# Altium footprint library LAN8841-VQ2A.PcbLib: 3 footprints
Each footprint in its own frame and in the unit in brackets; x right, y up, seen from the top. Pads: shape width x height; smd on the part's side, far side on the other; paste and mask are expansions set on the pad; w line width, h text height; cw(c..) or ccw(c..) is an arc to the next point about the centre after c.
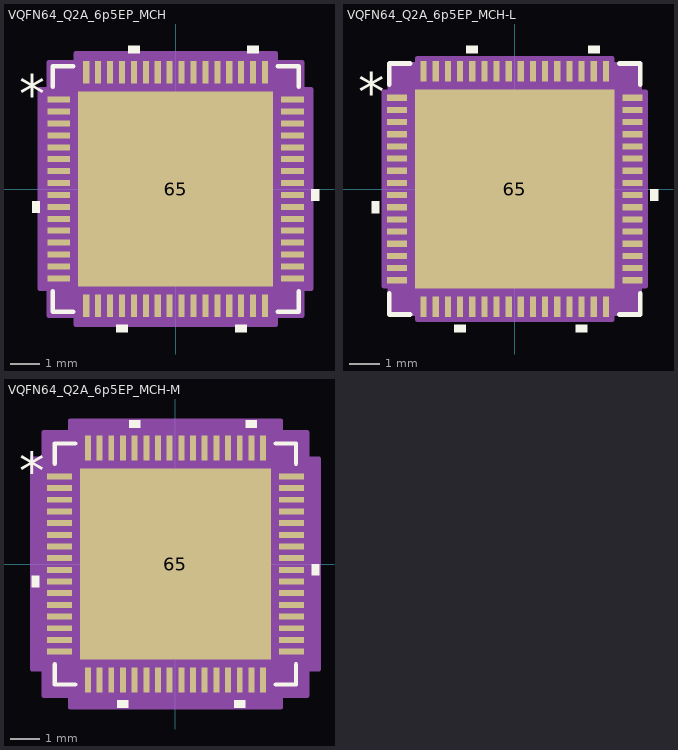
[diagram p0: the footprints below, top view; thin cyan lines are the x and y axes]

## VQFN64_Q2A_6p5EP_MCH [mil]
pads (65):
  rect 30x8 smd paste+0 mask+0: 1(-154.5,118.11) 2(-154.5,102.36) 3(-154.5,86.61) 4(-154.5,70.87) 5(-154.5,55.12) 6(-154.5,39.37) 7(-154.5,23.62) 8(-154.5,7.87) 9(-154.5,-7.87) 10(-154.5,-23.62) 11(-154.5,-39.37) 12(-154.5,-55.12) 13(-154.5,-70.87) 14(-154.5,-86.61) 15(-154.5,-102.36) 16(-154.5,-118.11) 33(154.5,-118.11) 34(154.5,-102.36) 35(154.5,-86.61) 36(154.5,-70.87) 37(154.5,-55.12) 38(154.5,-39.37) 39(154.5,-23.62) 40(154.5,-7.87) 41(154.5,7.87) 42(154.5,23.62) 43(154.5,39.37) 44(154.5,55.12) 45(154.5,70.87) 46(154.5,86.61) 47(154.5,102.36) 48(154.5,118.11)
  rect 8x30 smd paste+0 mask+0: 17(-118.11,-154.5) 18(-102.36,-154.5) 19(-86.61,-154.5) 20(-70.87,-154.5) 21(-55.12,-154.5) 22(-39.37,-154.5) 23(-23.62,-154.5) 24(-7.87,-154.5) 25(7.87,-154.5) 26(23.62,-154.5) 27(39.37,-154.5) 28(55.12,-154.5) 29(70.87,-154.5) 30(86.61,-154.5) 31(102.36,-154.5) 32(118.11,-154.5) 49(118.11,154.5) 50(102.36,154.5) 51(86.61,154.5) 52(70.87,154.5) 53(55.12,154.5) 54(39.37,154.5) 55(23.62,154.5) 56(7.87,154.5) 57(-7.87,154.5) 58(-23.62,154.5) 59(-39.37,154.5) 60(-55.12,154.5) 61(-70.87,154.5) 62(-86.61,154.5) 63(-102.36,154.5) 64(-118.11,154.5)
  rect 258x258 smd paste-129 mask+0: 65(0,0)
Top Overlay:
  region: -179.5,-16.12 -189.5,-16.12 -189.5,-31.12 -179.5,-31.12
  region: -63.37,-179.5 -78.37,-179.5 -78.37,-189.5 -63.37,-189.5
  region: 94.11,-179.5 79.11,-179.5 79.11,-189.5 94.11,-189.5
  region: 179.5,-0.37 189.5,-0.37 189.5,-15.37 179.5,-15.37
  region: 109.86,179.5 94.86,179.5 94.86,189.5 109.86,189.5
  region: -47.62,179.5 -62.62,179.5 -62.62,189.5 -47.62,189.5
  lines w6: -162.5,-135.21 -162.5,-162.5 -135.21,-162.5 ; -162.5,135.21 -162.5,162.5 -135.21,162.5 ; 135.21,-162.5 162.5,-162.5 162.5,-135.21 ; 135.21,162.5 162.5,162.5 162.5,135.21
  text "*" at -207,100.98 h50
Top Paste:
  region: -81.34,125.06 -125.06,125.06 -125.06,81.34 -81.34,81.34
  region: -81.34,73.46 -125.06,73.46 -125.06,29.74 -81.34,29.74
  region: -81.34,21.86 -125.06,21.86 -125.06,-21.86 -81.34,-21.86
  region: -81.34,-29.74 -125.06,-29.74 -125.06,-73.46 -81.34,-73.46
  region: -81.34,-81.34 -125.06,-81.34 -125.06,-125.06 -81.34,-125.06
  region: -29.74,125.06 -73.46,125.06 -73.46,81.34 -29.74,81.34
  region: -29.74,73.46 -73.46,73.46 -73.46,29.74 -29.74,29.74
  region: -29.74,21.86 -73.46,21.86 -73.46,-21.86 -29.74,-21.86
  region: -29.74,-29.74 -73.46,-29.74 -73.46,-73.46 -29.74,-73.46
  region: -29.74,-81.34 -73.46,-81.34 -73.46,-125.06 -29.74,-125.06
  region: 21.86,125.06 -21.86,125.06 -21.86,81.34 21.86,81.34
  region: 21.86,73.46 -21.86,73.46 -21.86,29.74 21.86,29.74
  region: 21.86,21.86 -21.86,21.86 -21.86,-21.86 21.86,-21.86
  region: 21.86,-29.74 -21.86,-29.74 -21.86,-73.46 21.86,-73.46
  region: 21.86,-81.34 -21.86,-81.34 -21.86,-125.06 21.86,-125.06
  region: 73.46,125.06 29.74,125.06 29.74,81.34 73.46,81.34
  region: 73.46,73.46 29.74,73.46 29.74,29.74 73.46,29.74
  region: 73.46,21.86 29.74,21.86 29.74,-21.86 73.46,-21.86
  region: 73.46,-29.74 29.74,-29.74 29.74,-73.46 73.46,-73.46
  region: 73.46,-81.34 29.74,-81.34 29.74,-125.06 73.46,-125.06
  region: 125.06,125.06 81.34,125.06 81.34,81.34 125.06,81.34
  region: 125.06,73.46 81.34,73.46 81.34,29.74 125.06,29.74
  region: 125.06,21.86 81.34,21.86 81.34,-21.86 125.06,-21.86
  region: 125.06,-29.74 81.34,-29.74 81.34,-73.46 125.06,-73.46
  region: 125.06,-81.34 81.34,-81.34 81.34,-125.06 125.06,-125.06
Mechanical 13:
  drawing of 265 lines, arcs and shapes, not listed
  text "*" at -152,100.98 h50
Mechanical 15:
  region: -132.11,-167.5 -167.5,-167.5 -167.5,-132.11 -179.5,-132.11 -179.5,132.11 -167.5,132.11 -167.5,167.5 -132.11,167.5 -132.11,179.5 132.11,179.5 132.11,167.5 167.5,167.5 167.5,132.11 179.5,132.11 179.5,-132.11 167.5,-132.11 167.5,-167.5 132.11,-167.5 132.11,-179.5 -132.11,-179.5
  lines w6: -179.5,-132.11 -167.5,-132.11 -167.5,-167.5 -132.11,-167.5 -132.11,-179.5 132.11,-179.5 132.11,-167.5 167.5,-167.5 167.5,-132.11 179.5,-132.11 179.5,132.11 167.5,132.11 167.5,167.5 132.11,167.5 132.11,179.5 -132.11,179.5 -132.11,167.5 -167.5,167.5 -167.5,132.11 -179.5,132.11 -179.5,-132.11
3D body "VQFN64_Q2A_6p5EP_MCH.step": height 35.12, standoff 0, extent -157.48,-157.48 157.48,157.48

## VQFN64_Q2A_6p5EP_MCH-L [mil]
pads (65):
  rect 26x8 smd paste+0 mask+0: 1(-152.5,118.11) 2(-152.5,102.36) 3(-152.5,86.61) 4(-152.5,70.87) 5(-152.5,55.12) 6(-152.5,39.37) 7(-152.5,23.62) 8(-152.5,7.87) 9(-152.5,-7.87) 10(-152.5,-23.62) 11(-152.5,-39.37) 12(-152.5,-55.12) 13(-152.5,-70.87) 14(-152.5,-86.61) 15(-152.5,-102.36) 16(-152.5,-118.11) 33(152.5,-118.11) 34(152.5,-102.36) 35(152.5,-86.61) 36(152.5,-70.87) 37(152.5,-55.12) 38(152.5,-39.37) 39(152.5,-23.62) 40(152.5,-7.87) 41(152.5,7.87) 42(152.5,23.62) 43(152.5,39.37) 44(152.5,55.12) 45(152.5,70.87) 46(152.5,86.61) 47(152.5,102.36) 48(152.5,118.11)
  rect 8x26 smd paste+0 mask+0: 17(-118.11,-152.5) 18(-102.36,-152.5) 19(-86.61,-152.5) 20(-70.87,-152.5) 21(-55.12,-152.5) 22(-39.37,-152.5) 23(-23.62,-152.5) 24(-7.87,-152.5) 25(7.87,-152.5) 26(23.62,-152.5) 27(39.37,-152.5) 28(55.12,-152.5) 29(70.87,-152.5) 30(86.61,-152.5) 31(102.36,-152.5) 32(118.11,-152.5) 49(118.11,152.5) 50(102.36,152.5) 51(86.61,152.5) 52(70.87,152.5) 53(55.12,152.5) 54(39.37,152.5) 55(23.62,152.5) 56(7.87,152.5) 57(-7.87,152.5) 58(-23.62,152.5) 59(-39.37,152.5) 60(-55.12,152.5) 61(-70.87,152.5) 62(-86.61,152.5) 63(-102.36,152.5) 64(-118.11,152.5)
  rect 258x258 smd paste-129 mask+0: 65(0,0)
Top Overlay:
  region: -175.5,-16.12 -185.5,-16.12 -185.5,-31.12 -175.5,-31.12
  region: -63.37,-175.5 -78.37,-175.5 -78.37,-185.5 -63.37,-185.5
  region: 94.11,-175.5 79.11,-175.5 79.11,-185.5 94.11,-185.5
  region: 175.5,-0.37 185.5,-0.37 185.5,-15.37 175.5,-15.37
  region: 109.86,175.5 94.86,175.5 94.86,185.5 109.86,185.5
  region: -47.62,175.5 -62.62,175.5 -62.62,185.5 -47.62,185.5
  lines w6: -162.5,-135.21 -162.5,-162.5 -135.21,-162.5 ; -162.5,135.21 -162.5,162.5 -135.21,162.5 ; 135.21,-162.5 162.5,-162.5 162.5,-135.21 ; 135.21,162.5 162.5,162.5 162.5,135.21
  text "*" at -203,100.98 h50
Top Paste:
  region: -81.34,125.06 -125.06,125.06 -125.06,81.34 -81.34,81.34
  region: -81.34,73.46 -125.06,73.46 -125.06,29.74 -81.34,29.74
  region: -81.34,21.86 -125.06,21.86 -125.06,-21.86 -81.34,-21.86
  region: -81.34,-29.74 -125.06,-29.74 -125.06,-73.46 -81.34,-73.46
  region: -81.34,-81.34 -125.06,-81.34 -125.06,-125.06 -81.34,-125.06
  region: -29.74,125.06 -73.46,125.06 -73.46,81.34 -29.74,81.34
  region: -29.74,73.46 -73.46,73.46 -73.46,29.74 -29.74,29.74
  region: -29.74,21.86 -73.46,21.86 -73.46,-21.86 -29.74,-21.86
  region: -29.74,-29.74 -73.46,-29.74 -73.46,-73.46 -29.74,-73.46
  region: -29.74,-81.34 -73.46,-81.34 -73.46,-125.06 -29.74,-125.06
  region: 21.86,125.06 -21.86,125.06 -21.86,81.34 21.86,81.34
  region: 21.86,73.46 -21.86,73.46 -21.86,29.74 21.86,29.74
  region: 21.86,21.86 -21.86,21.86 -21.86,-21.86 21.86,-21.86
  region: 21.86,-29.74 -21.86,-29.74 -21.86,-73.46 21.86,-73.46
  region: 21.86,-81.34 -21.86,-81.34 -21.86,-125.06 21.86,-125.06
  region: 73.46,125.06 29.74,125.06 29.74,81.34 73.46,81.34
  region: 73.46,73.46 29.74,73.46 29.74,29.74 73.46,29.74
  region: 73.46,21.86 29.74,21.86 29.74,-21.86 73.46,-21.86
  region: 73.46,-29.74 29.74,-29.74 29.74,-73.46 73.46,-73.46
  region: 73.46,-81.34 29.74,-81.34 29.74,-125.06 73.46,-125.06
  region: 125.06,125.06 81.34,125.06 81.34,81.34 125.06,81.34
  region: 125.06,73.46 81.34,73.46 81.34,29.74 125.06,29.74
  region: 125.06,21.86 81.34,21.86 81.34,-21.86 125.06,-21.86
  region: 125.06,-29.74 81.34,-29.74 81.34,-73.46 125.06,-73.46
  region: 125.06,-81.34 81.34,-81.34 81.34,-125.06 125.06,-125.06
Mechanical 13:
  drawing of 265 lines, arcs and shapes, not listed
  text "*" at -152,100.98 h50
Mechanical 15:
  region: -126.11,-161.5 -161.5,-161.5 -161.5,-126.11 -169.5,-126.11 -169.5,126.11 -161.5,126.11 -161.5,161.5 -126.11,161.5 -126.11,169.5 126.11,169.5 126.11,161.5 161.5,161.5 161.5,126.11 169.5,126.11 169.5,-126.11 161.5,-126.11 161.5,-161.5 126.11,-161.5 126.11,-169.5 -126.11,-169.5
  lines w6: -169.5,-126.11 -161.5,-126.11 -161.5,-161.5 -126.11,-161.5 -126.11,-169.5 126.11,-169.5 126.11,-161.5 161.5,-161.5 161.5,-126.11 169.5,-126.11 169.5,126.11 161.5,126.11 161.5,161.5 126.11,161.5 126.11,169.5 -126.11,169.5 -126.11,161.5 -161.5,161.5 -161.5,126.11 -169.5,126.11 -169.5,-126.11
3D body "VQFN64_Q2A_6p5EP_MCH.step": height 35.12, standoff 0, extent -157.48,-157.48 157.48,157.48

## VQFN64_Q2A_6p5EP_MCH-M [mil]
pads (65):
  rect 34x8 smd paste+0 mask+0: 1(-156.5,118.11) 2(-156.5,102.36) 3(-156.5,86.61) 4(-156.5,70.87) 5(-156.5,55.12) 6(-156.5,39.37) 7(-156.5,23.62) 8(-156.5,7.87) 9(-156.5,-7.87) 10(-156.5,-23.62) 11(-156.5,-39.37) 12(-156.5,-55.12) 13(-156.5,-70.87) 14(-156.5,-86.61) 15(-156.5,-102.36) 16(-156.5,-118.11) 33(156.5,-118.11) 34(156.5,-102.36) 35(156.5,-86.61) 36(156.5,-70.87) 37(156.5,-55.12) 38(156.5,-39.37) 39(156.5,-23.62) 40(156.5,-7.87) 41(156.5,7.87) 42(156.5,23.62) 43(156.5,39.37) 44(156.5,55.12) 45(156.5,70.87) 46(156.5,86.61) 47(156.5,102.36) 48(156.5,118.11)
  rect 8x34 smd paste+0 mask+0: 17(-118.11,-156.5) 18(-102.36,-156.5) 19(-86.61,-156.5) 20(-70.87,-156.5) 21(-55.12,-156.5) 22(-39.37,-156.5) 23(-23.62,-156.5) 24(-7.87,-156.5) 25(7.87,-156.5) 26(23.62,-156.5) 27(39.37,-156.5) 28(55.12,-156.5) 29(70.87,-156.5) 30(86.61,-156.5) 31(102.36,-156.5) 32(118.11,-156.5) 49(118.11,156.5) 50(102.36,156.5) 51(86.61,156.5) 52(70.87,156.5) 53(55.12,156.5) 54(39.37,156.5) 55(23.62,156.5) 56(7.87,156.5) 57(-7.87,156.5) 58(-23.62,156.5) 59(-39.37,156.5) 60(-55.12,156.5) 61(-70.87,156.5) 62(-86.61,156.5) 63(-102.36,156.5) 64(-118.11,156.5)
  rect 258x258 smd paste-129 mask+0: 65(0,0)
Top Overlay:
  region: -183.5,-16.12 -193.5,-16.12 -193.5,-31.12 -183.5,-31.12
  region: -63.37,-183.5 -78.37,-183.5 -78.37,-193.5 -63.37,-193.5
  region: 94.11,-183.5 79.11,-183.5 79.11,-193.5 94.11,-193.5
  region: 183.5,-0.37 193.5,-0.37 193.5,-15.37 183.5,-15.37
  region: 109.86,183.5 94.86,183.5 94.86,193.5 109.86,193.5
  region: -47.62,183.5 -62.62,183.5 -62.62,193.5 -47.62,193.5
  lines w6: -162.5,-135.21 -162.5,-162.5 -135.21,-162.5 ; -162.5,135.21 -162.5,162.5 -135.21,162.5 ; 135.21,-162.5 162.5,-162.5 162.5,-135.21 ; 135.21,162.5 162.5,162.5 162.5,135.21
  text "*" at -211,100.98 h50
Top Paste:
  region: -81.34,125.06 -125.06,125.06 -125.06,81.34 -81.34,81.34
  region: -81.34,73.46 -125.06,73.46 -125.06,29.74 -81.34,29.74
  region: -81.34,21.86 -125.06,21.86 -125.06,-21.86 -81.34,-21.86
  region: -81.34,-29.74 -125.06,-29.74 -125.06,-73.46 -81.34,-73.46
  region: -81.34,-81.34 -125.06,-81.34 -125.06,-125.06 -81.34,-125.06
  region: -29.74,125.06 -73.46,125.06 -73.46,81.34 -29.74,81.34
  region: -29.74,73.46 -73.46,73.46 -73.46,29.74 -29.74,29.74
  region: -29.74,21.86 -73.46,21.86 -73.46,-21.86 -29.74,-21.86
  region: -29.74,-29.74 -73.46,-29.74 -73.46,-73.46 -29.74,-73.46
  region: -29.74,-81.34 -73.46,-81.34 -73.46,-125.06 -29.74,-125.06
  region: 21.86,125.06 -21.86,125.06 -21.86,81.34 21.86,81.34
  region: 21.86,73.46 -21.86,73.46 -21.86,29.74 21.86,29.74
  region: 21.86,21.86 -21.86,21.86 -21.86,-21.86 21.86,-21.86
  region: 21.86,-29.74 -21.86,-29.74 -21.86,-73.46 21.86,-73.46
  region: 21.86,-81.34 -21.86,-81.34 -21.86,-125.06 21.86,-125.06
  region: 73.46,125.06 29.74,125.06 29.74,81.34 73.46,81.34
  region: 73.46,73.46 29.74,73.46 29.74,29.74 73.46,29.74
  region: 73.46,21.86 29.74,21.86 29.74,-21.86 73.46,-21.86
  region: 73.46,-29.74 29.74,-29.74 29.74,-73.46 73.46,-73.46
  region: 73.46,-81.34 29.74,-81.34 29.74,-125.06 73.46,-125.06
  region: 125.06,125.06 81.34,125.06 81.34,81.34 125.06,81.34
  region: 125.06,73.46 81.34,73.46 81.34,29.74 125.06,29.74
  region: 125.06,21.86 81.34,21.86 81.34,-21.86 125.06,-21.86
  region: 125.06,-29.74 81.34,-29.74 81.34,-73.46 125.06,-73.46
  region: 125.06,-81.34 81.34,-81.34 81.34,-125.06 125.06,-125.06
Mechanical 13:
  drawing of 265 lines, arcs and shapes, not listed
  text "*" at -152,100.98 h50
Mechanical 15:
  region: -142.11,-177.5 -177.5,-177.5 -177.5,-142.11 -193.5,-142.11 -193.5,142.11 -177.5,142.11 -177.5,177.5 -142.11,177.5 -142.11,193.5 142.11,193.5 142.11,177.5 177.5,177.5 177.5,142.11 193.5,142.11 193.5,-142.11 177.5,-142.11 177.5,-177.5 142.11,-177.5 142.11,-193.5 -142.11,-193.5
  lines w6: -193.5,-142.11 -177.5,-142.11 -177.5,-177.5 -142.11,-177.5 -142.11,-193.5 142.11,-193.5 142.11,-177.5 177.5,-177.5 177.5,-142.11 193.5,-142.11 193.5,142.11 177.5,142.11 177.5,177.5 142.11,177.5 142.11,193.5 -142.11,193.5 -142.11,177.5 -177.5,177.5 -177.5,142.11 -193.5,142.11 -193.5,-142.11
3D body "VQFN64_Q2A_6p5EP_MCH.step": height 35.12, standoff 0, extent -157.48,-157.48 157.48,157.48